# Altium schematic symbol library TPS65251-1RHAR.SchLib: 1 symbol
Pins are listed as number, name and electrical type; pins without a type are passive.

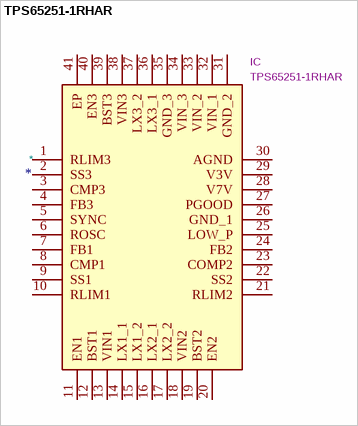
[diagram p0: symbol TPS65251-1RHAR]

## TPS65251-1RHAR
designator *  value TPS65251-1RHAR  Reference: IC
Manufacturer_Name: Texas Instruments; ki_description: 4.5-V to 18-V input, 3A/2A/2A output, Synchronous triple buck converter; Footprint: QFN50P600X600X100-41N-D; Datasheet: http://www.ti.com/lit/gpn/TPS65251-1; Height: 1; Manufacturer_Part_Number: TPS65251-1RHAR; Mouser Part Number: 595-TPS65251-1RHAR; Mouser Price/Stock: https://www.mouser.co.uk/ProductDetail/Texas-Instruments/TPS65251-1RHAR?qs=JRStGrVgRuSy8em9PUe0zA%3D%3D; Arrow Part Number: TPS65251-1RHAR; Arrow Price/Stock: https://www.arrow.com/en/products/tps65251-1rhar/texas-instruments?region=nac
pins: 1 RLIM3, 2 SS3, 3 CMP3, 4 FB3, 5 SYNC, 6 ROSC, 7 FB1, 8 CMP1, 9 SS1, 10 RLIM1, 11 EN1, 12 BST1, 13 VIN1, 14 LX1_1, 15 LX1_2, 16 LX2_1, 17 LX2_2, 18 VIN2, 19 BST2, 20 EN2, 21 RLIM2, 22 SS2, 23 COMP2, 24 FB2, 25 LOW_P, 26 GND_1, 27 PGOOD, 28 V7V, 29 V3V, 30 AGND, 31 GND_2, 32 VIN_1, 33 VIN_2, 34 VIN_3, 35 GND_3, 36 LX3_1, 37 LX3_2, 38 VIN3, 39 BST3, 40 EN3, 41 EP